# Altium schematic symbol library con-phoenix-762.SCHLIB: 19 symbols
Pins are listed as number, name and electrical type; pins without a type are passive.

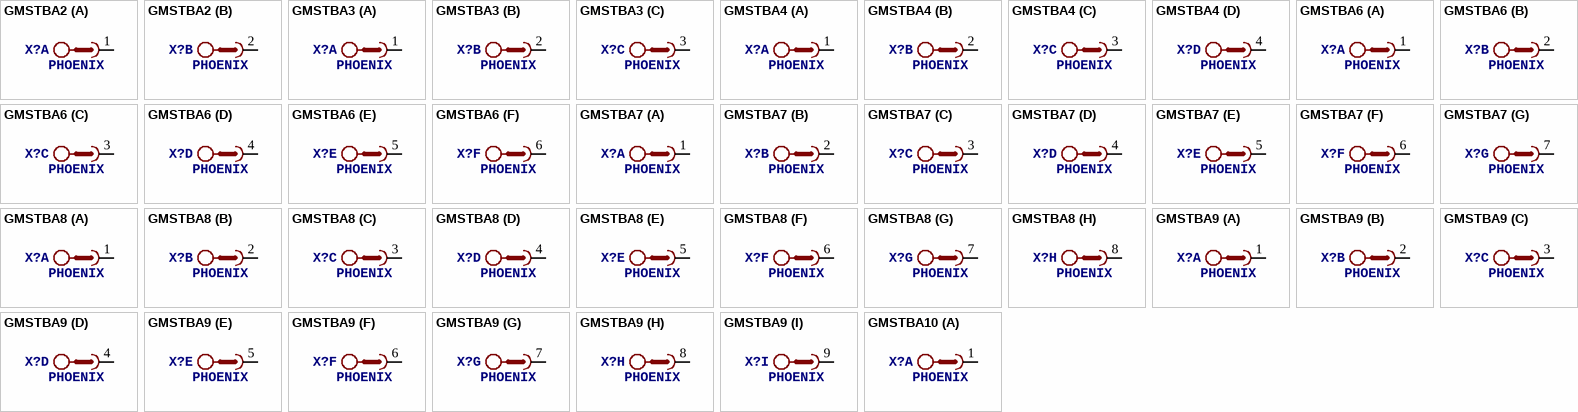
[diagram p0: symbols GMSTBA2 to GMSTBA10]

## GMSTBA2
designator X?, comment PHOENIX
MPN: 1757242; MF: FARNELL; OC_FARNELL: 3705171; OC_NEWARK: 71C4161
footprint GMSTBA2
part A pins: 1
part B pins: 2 1

## GMSTBA3
designator X?, comment PHOENIX
MPN: 1757255; MF: FARNELL; OC_FARNELL: 3705183; OC_NEWARK: 71C4162
footprint GMSTBA3
part A pins: 1
part B pins: 2 1
part C pins: 3 1

## GMSTBA4
designator X?, comment PHOENIX
MPN: 1757268; MF: FARNELL; OC_FARNELL: 3705195; OC_NEWARK: 71C4163
footprint GMSTBA4
part A pins: 1
part B pins: 2 1
part C pins: 3 1
part D pins: 4 1

## GMSTBA6
designator X?, comment PHOENIX
MPN: 1757284; MF: FARNELL; OC_FARNELL: 3705213; OC_NEWARK: 71C4165
footprint GMSTBA6
part A pins: 1
part B pins: 2 1
part C pins: 3 1
part D pins: 4 1
part E pins: 5 1
part F pins: 6 1

## GMSTBA7
designator X?, comment PHOENIX
OC_FARNELL: unknown; OC_NEWARK: unknown
footprint GMSTBA7
part A pins: 1
part B pins: 2 1
part C pins: 3 1
part D pins: 4 1
part E pins: 5 1
part F pins: 6 1
part G pins: 7 1

## GMSTBA8
designator X?, comment PHOENIX
MPN: 1757307; MF: FARNELL; OC_FARNELL: 3705225; OC_NEWARK: 71C4166
footprint GMSTBA8
part A pins: 1
part B pins: 2 1
part C pins: 3 1
part D pins: 4 1
part E pins: 5 1
part F pins: 6 1
part G pins: 7 1
part H pins: 8 1

## GMSTBA9
designator X?, comment PHOENIX
MPN: 1757310; MF: FARNELL; OC_FARNELL: 3705237; OC_NEWARK: 71C4167
footprint GMSTBA9
part A pins: 1
part B pins: 2 1
part C pins: 3 1
part D pins: 4 1
part E pins: 5 1
part F pins: 6 1
part G pins: 7 1
part H pins: 8 1
part I pins: 9 1

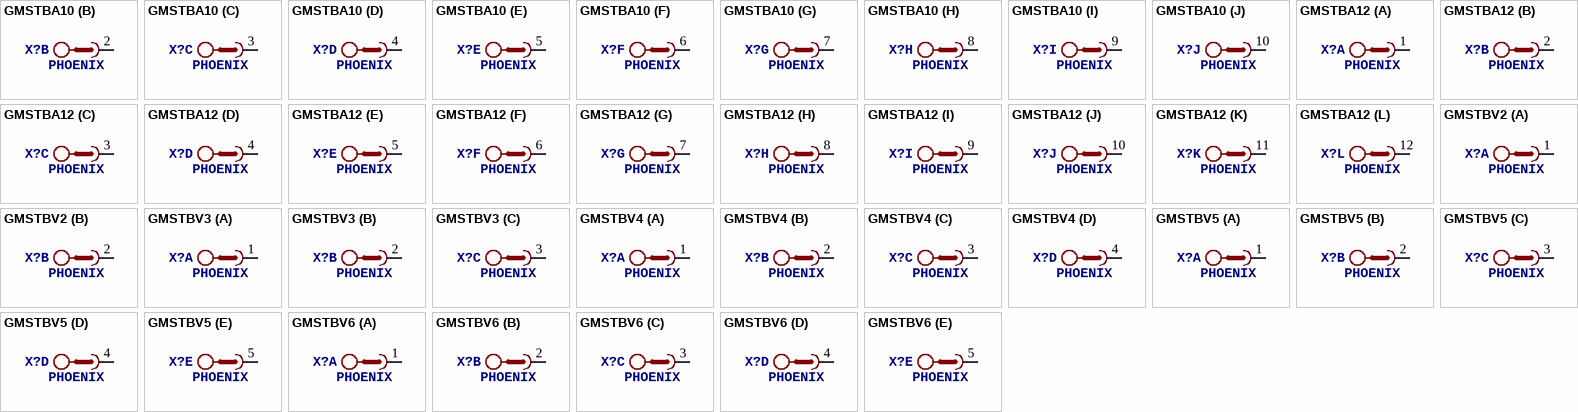
[diagram p1: symbols GMSTBA10 to GMSTBV6]

## GMSTBA10
designator X?, comment PHOENIX
MPN: 1757323; MF: FARNELL; OC_FARNELL: 3705249; OC_NEWARK: 71C4168
footprint GMSTBA10
part A pins: 1
part B pins: 2 1
part C pins: 3 1
part D pins: 4 1
part E pins: 5 1
part F pins: 6 1
part G pins: 7 1
part H pins: 8 1
part I pins: 9 1
part J pins: 10 1

## GMSTBA12
designator X?, comment PHOENIX
MPN: 1757349; OC_FARNELL: 3705250; OC_NEWARK: 71C4169
footprint GMSTBA12
part A pins: 1
part B pins: 2 1
part C pins: 3 1
part D pins: 4 1
part E pins: 5 1
part F pins: 6 1
part G pins: 7 1
part H pins: 8 1
part I pins: 9 1
part J pins: 10 1
part K pins: 11 1
part L pins: 12 1

## GMSTBV2
designator X?, comment PHOENIX
MPN: GMSTBVA2,5/2-G-7,62; OC_FARNELL: 1793079; OC_NEWARK: 69R9520
footprint GMSTBV2
part A pins: 1
part B pins: 2 1

## GMSTBV3
designator X?, comment PHOENIX
MPN: GMSTBVA2,5/3-G-7,62; OC_FARNELL: 1793080; OC_NEWARK: 69R9521
footprint GMSTBV3
part A pins: 1
part B pins: 2 1
part C pins: 3 1

## GMSTBV4
designator X?, comment PHOENIX
MPN: GMSTBVA2,5/4-G-7,62; OC_FARNELL: 1793082; OC_NEWARK: 69R9522
footprint GMSTBV4
part A pins: 1
part B pins: 2 1
part C pins: 3 1
part D pins: 4 1

## GMSTBV5
designator X?, comment PHOENIX
MPN: GMSTBVA2,5/5-G-7,62; OC_FARNELL: 1793083; OC_NEWARK: 69R9523
footprint GMSTBV5
part A pins: 1
part B pins: 2 1
part C pins: 3 1
part D pins: 4 1
part E pins: 5 1

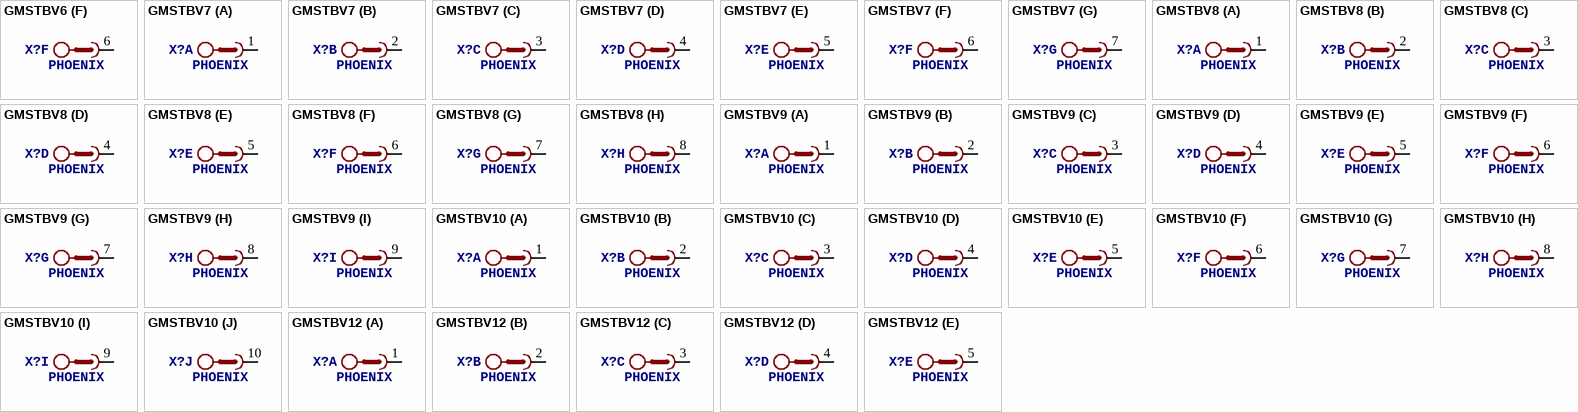
[diagram p2: symbols GMSTBV6 to GMSTBV12]

## GMSTBV6
designator X?, comment PHOENIX
MPN: GMSTBVA2,5/6-G-7,62; OC_FARNELL: 1793084; OC_NEWARK: 69R9524
footprint GMSTBV6
part A pins: 1
part B pins: 2 1
part C pins: 3 1
part D pins: 4 1
part E pins: 5 1
part F pins: 6 1

## GMSTBV7
designator X?, comment PHOENIX
OC_FARNELL: unknown; OC_NEWARK: unknown
footprint GMSTBV7
part A pins: 1
part B pins: 2 1
part C pins: 3 1
part D pins: 4 1
part E pins: 5 1
part F pins: 6 1
part G pins: 7 1

## GMSTBV8
designator X?, comment PHOENIX
MPN: GMSTBVA2,5/8-G-7,62; OC_FARNELL: 1793085; OC_NEWARK: 69R9525
footprint GMSTBV8
part A pins: 1
part B pins: 2 1
part C pins: 3 1
part D pins: 4 1
part E pins: 5 1
part F pins: 6 1
part G pins: 7 1
part H pins: 8 1

## GMSTBV9
designator X?, comment PHOENIX
OC_FARNELL: unknown; OC_NEWARK: unknown
footprint GMSTBV9
part A pins: 1
part B pins: 2 1
part C pins: 3 1
part D pins: 4 1
part E pins: 5 1
part F pins: 6 1
part G pins: 7 1
part H pins: 8 1
part I pins: 9 1

## GMSTBV10
designator X?, comment PHOENIX
MPN: GMSTBVA2,5/10-G-7,62; OC_FARNELL: 1793086; OC_NEWARK: 69R9519
footprint GMSTBV10
part A pins: 1
part B pins: 2 1
part C pins: 3 1
part D pins: 4 1
part E pins: 5 1
part F pins: 6 1
part G pins: 7 1
part H pins: 8 1
part I pins: 9 1
part J pins: 10 1

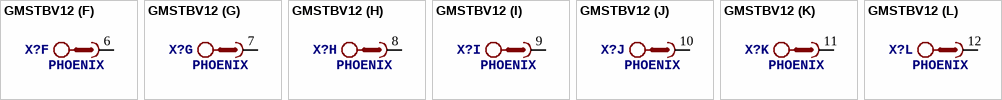
[diagram p3: symbol GMSTBV12]

## GMSTBV12
designator X?, comment PHOENIX
OC_FARNELL: unknown; OC_NEWARK: unknown
footprint GMSTBV12
part A pins: 1
part B pins: 2 1
part C pins: 3 1
part D pins: 4 1
part E pins: 5 1
part F pins: 6 1
part G pins: 7 1
part H pins: 8 1
part I pins: 9 1
part J pins: 10 1
part K pins: 11 1
part L pins: 12 1